# Altium schematic symbol library MAX14500.SchLib: 1 symbol
Pins are listed as number, name and electrical type; pins without a type are passive.

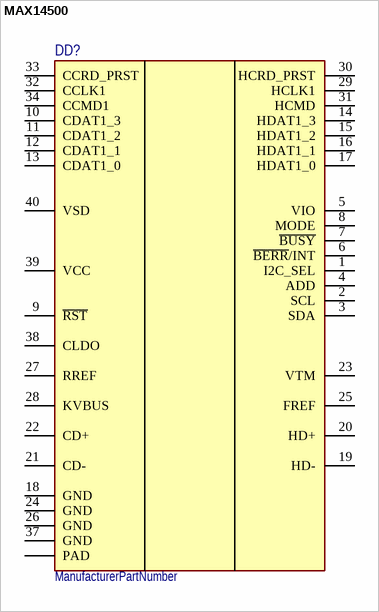
[diagram p0: symbol MAX14500]

## MAX14500
designator DD?  (value not drawn)
ManufacturerPartNumber: ManufacturerPartNumber
pins: 1 I2C_SEL, 2 SCL, 3 SDA, 4 ADD, 5 VIO, 6 ~{BERR}/INT, 7 ~{BUSY}, 8 MODE, 9 ~{RST}, 10 CDAT1_3, 11 CDAT1_2, 12 CDAT1_1, 13 CDAT1_0, 14 HDAT1_3, 15 HDAT1_2, 16 HDAT1_1, 17 HDAT1_0, 18 GND, 19 HD-, 20 HD+, 21 CD-, 22 CD+, 23 VTM, 24 GND, 25 FREF, 26 GND, 27 RREF, 28 KVBUS, 29 HCLK1, 30 HCRD_PRST, 31 HCMD, 32 CCLK1, 33 CCRD_PRST, 34 CCMD1, 37 GND, 38 CLDO, 39 VCC, 40 VSD, 41 PAD